# EAGLE library part CONNECTOR_6PIN (library lolomolo)
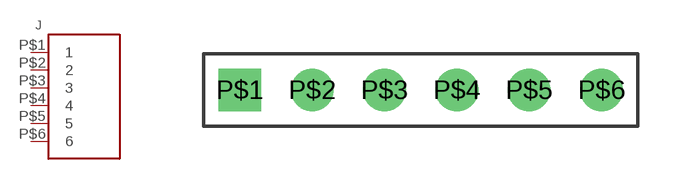
[diagram p3: symbol with the pads of 6PIN_.1'; footprint 6PIN_.1']

Designator prefix J

## CONNECTOR_6PIN  [6PIN_.1']
P$1  1
P$2  2
P$3  3
P$4  4
P$5  5
P$6  6

## Footprint 6PIN_.1' (pad centres in mm)
drill 0.991 square: P$1 -6.35,0
drill 0.991: P$2 -3.81,0; P$3 -1.27,0; P$4 1.27,0; P$5 3.81,0; P$6 6.35,0